# EAGLE library part EL5172ISZ (library Intersil_By_element14_Batch_1)
250MHz Differential Line Receivers
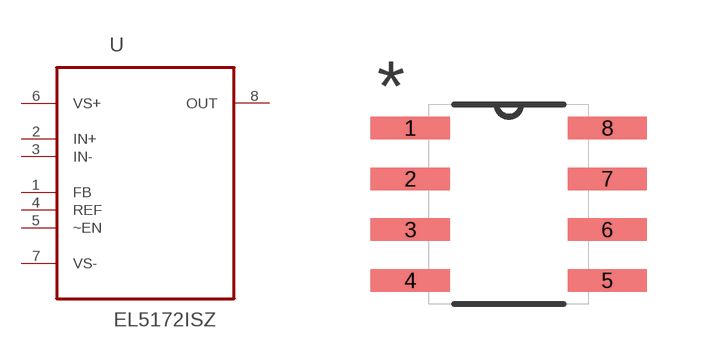
[diagram p61: symbol with the pads of SOIC127P600X175-8N; footprint SOIC127P600X175-8N]

Designator prefix U

## EL5172ISZ (MPN: EL5172ISZ; OC_FARNELL: 1562067; OC_NEWARK: 57K3275; PACKAGE: 8-SOIC; SUPPLIER: Intersil)  [SOIC127P600X175-8N]
1  FB  in
2  IN+  in
3  IN-  in
4  REF  in
5  ~EN  in
6  VS+  pwr
7  VS-  pwr
8  OUT  out

## Footprint SOIC127P600X175-8N (pad centres in mm)
smd 1.981 x 0.559: 1 -2.464,1.905; 2 -2.464,0.635; 3 -2.464,-0.635; 4 -2.464,-1.905; 5 2.464,-1.905; 6 2.464,-0.635; 7 2.464,0.635; 8 2.464,1.905